# Altium integrated library Resistors-Capacitors.IntLib: 24 symbols
Pins are listed as number, name and electrical type; pins without a type are passive.

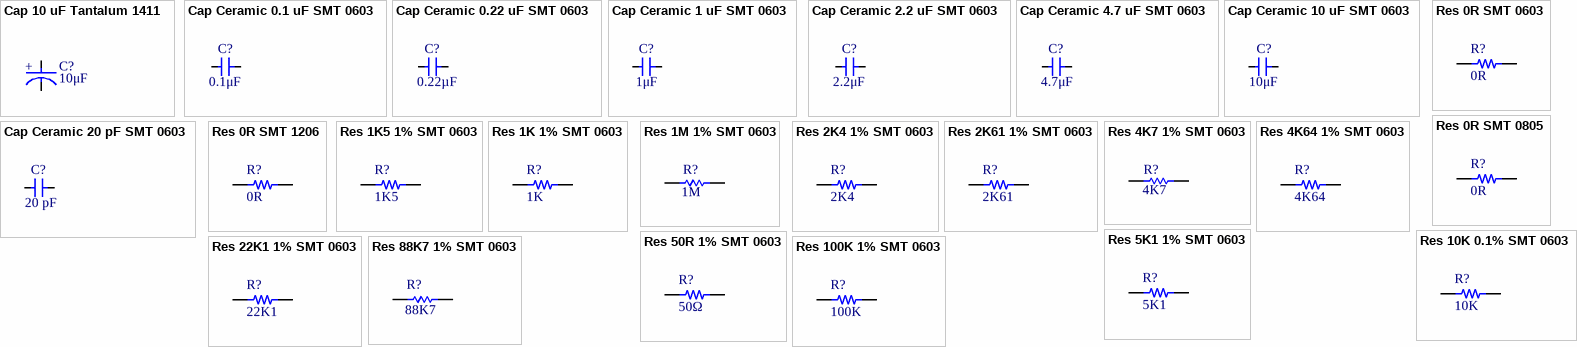
[diagram p0: symbols Cap 10 uF Tantalum 1411 to Res 100K 1% SMT 0603]

## Cap 10 uF Tantalum 1411
designator C?, comment value 10μF  (hidden comment: 293D106X9016B2TE3)
10 µF Molded Tantalum Capacitors 16 V 1411 (3528 Metric) 2Ohm; Voltage Rating: 16V; Case Code (Imperial): 1411; Supplier 1: Digi-Key; Supplier Part Number 1: 718-1124-1-ND; Supplier 2: Digi-Key; Supplier Part Number 2: 718-1124-6-ND; Supplier 3: Digi-Key; Supplier Part Number 3: 718-1124-2-ND
footprint Cap Vishay Tantalum 1411 (10 µF Molded Tantalum Capacitors 16 V 1411 (3528 Metric) 2Ohm)
pins: 1 C, 2 A
text: +

## Cap Ceramic 0.1 uF SMT 0603
designator C?, comment Capacitance: 0.1μF  (hidden comment: CC0603JRX7R9BB104)
0.1 µF ±5% 50V Ceramic Capacitor X7R 0603 (1608 Metric); manufacturer: Yageo; Part Number: CC0603JRX7R9BB104; Applications: General Purpose; componentlink1description: Datasheet; componentlink1url: https://www.yageo.com/upload/media/product/productsearch/datasheet/mlcc/UPY-GPHC_X7R_6.3V-to-50V_18.pdf; componentlink2description: DigiKey Link; componentlink2url: https://www.digikey.com/en/products/detail/yageo/CC0603JRX7R9BB104/5195188; Device Package: 0603 (1608 Metric); lastupdated: 2023-03-06 20:08:09; Lifecycle Status: Active; Minimum Order: 1; Mounting Type: Surface Mount, MLCC; Operating Temperature: -55°C ~ 125°C; Package / Case: 0603 (1608 Metric); packaging: TapeAndReel; partid: 12474; Part Status: Active; price: 0.01; series: CC; Size / Dimension: 0.063" L x 0.031" W (1.60mm x 0.80mm); Temperature Coefficient: X7R; Thickness (Max): 0.035" (0.90mm); Tolerance: ±5%; Voltage - Rated: 50V; Supplier 1: Digi-Key; Supplier Part Number 1: 311-1779-1-ND; Supplier 2: Digi-Key; Supplier Part Number 2: 311-1779-6-ND; Supplier 3: Digi-Key; Supplier Part Number 3: 311-1779-2-ND
footprint Cap Yaego 0603 (Capacitor Yaego 0603)
footprint Cap Yaego 0603 MFG
pins: 1, 2

## Cap Ceramic 0.22 uF SMT 0603
designator C?, comment Capacitance: 0.22µF  (hidden comment: GRM188R71E224KA88D)
0.22 µF ±10% 25V Ceramic Capacitor X7R 0603 (1608 Metric); manufacturer: Murata Electronics; Part Number: GRM188R71E224KA88D; Applications: General Purpose; componentlink1description: Datasheet; componentlink1url: https://www.murata.com/~/media/webrenewal/support/library/catalog/products/capacitor/mlcc/c02e.ashx?la=en-us; componentlink2description: DigiKey Link; componentlink2url: https://www.digikey.com/en/products/detail/murata-electronics/GRM188R71E224KA88D/702554; Device Package: 0603 (1608 Metric); lastupdated: 2023-03-05 20:08:17; Lifecycle Status: Active; Minimum Order: 1; Mounting Type: Surface Mount, MLCC; Operating Temperature: -55°C ~ 125°C; Package / Case: 0603 (1608 Metric); packaging: TapeAndReel; partid: 11196; Part Status: Active; price: 0.01; series: GRM; Size / Dimension: 0.063" L x 0.031" W (1.60mm x 0.80mm); Temperature Coefficient: X7R; Thickness (Max): 0.035" (0.90mm); Tolerance: ±10%; Voltage - Rated: 25V; Supplier 1: Digi-Key; Supplier Part Number 1: 490-3290-1-ND; Supplier 2: Digi-Key; Supplier Part Number 2: 490-3290-6-ND; Supplier 3: Digi-Key; Supplier Part Number 3: 490-3290-2-ND
footprint Cap Murata 0603 (Capacitor Murata Electronics 0603)
pins: 1, 2

## Cap Ceramic 1 uF SMT 0603
designator C?, comment value 1μF  (hidden comment: CC0603KPX7R7BB105)
1 µF ±10% 16V Ceramic Capacitor X7R 0603 (1608 Metric); Dielectric: XR7; Tolerance: 10%; Max Operating Temperature: 125°C; Case Code (Imperial): 0603; Voltage Rating (DC): 16V; Resistor Type: Ceramic; Height: 0.8mm; Length: 1.6mm; Construction: Flat; Termination: SMT/SMD; Min Operating Temperature: -55°C; Supplier 1: Digi-Key; Supplier Part Number 1: 13-CC0603KPX7R7BB105CT-ND; Supplier 2: Digi-Key; Supplier Part Number 2: 13-CC0603KPX7R7BB105DKR-ND; Supplier 3: Digi-Key; Supplier Part Number 3: 13-CC0603KPX7R7BB105TR-ND
footprint Cap Yaego 0603 (Capacitor Yaego 0603)
footprint Cap Yaego 0603 MFG (Capacitor Yaego MFG Type 0603)
pins: 1, 2

## Cap Ceramic 2.2 uF SMT 0603
designator C?, comment value 2.2μF  (hidden comment: CC0603KRX7R5BB225)
2.2 µF ±10% 6.3V Ceramic Capacitor X7R 0603 (1608 Metric); manufacturer: Yageo; Part Number: CC0603KRX7R5BB225; Applications: General Purpose; componentlink1description: Datasheet; componentlink1url: https://www.yageo.com/upload/media/product/productsearch/datasheet/mlcc/UPY-GPHC_X7R_6.3V-to-50V_18.pdf; componentlink2description: DigiKey Link; componentlink2url: https://www.digikey.com/en/products/detail/yageo/CC0603KRX7R5BB225/5195203; Device Package: 0603 (1608 Metric); lastupdated: 2023-03-06 20:08:32; Lifecycle Status: Active; Minimum Order: 1; Mounting Type: Surface Mount, MLCC; Operating Temperature: -55°C ~ 125°C; Package / Case: 0603 (1608 Metric); packaging: TapeAndReel; partid: 41539; Part Status: Active; price: 0.01; series: CC; Size / Dimension: 0.063" L x 0.031" W (1.60mm x 0.80mm); Temperature Coefficient: X7R; Thickness (Max): 0.035" (0.90mm); Tolerance: ±10%; Voltage - Rated: 6.3V; ComponentLink1Description: Datasheet; ComponentLink1URL: *; Supplier 1: Digi-Key; Supplier Part Number 1: 311-1795-1-ND; Supplier 2: Digi-Key; Supplier Part Number 2: 311-1795-6-ND; Supplier 3: Digi-Key; Supplier Part Number 3: 311-1795-2-ND
footprint Cap Yaego 0603 (Capacitor Yaego 0603)
footprint Cap Yaego 0603 MFG (Capacitor Yaego MFG Type 0603)
pins: 1, 2

## Cap Ceramic 4.7 uF SMT 0603
designator C?, comment Capacitance: 4.7μF  (hidden comment: CC0603KRX5R7BB475)
4.7 µF ±10% 16V Ceramic Capacitor X5R 0603 (1608 Metric); manufacturer: Yageo; Part Number: CC0603KRX5R7BB475; Applications: General Purpose; componentlink1description: Datasheet; componentlink1url: https://www.yageo.com/upload/media/product/productsearch/datasheet/mlcc/UPY-GPHC_X5R_4V-to-50V_25.pdf; componentlink2description: DigiKey Link; componentlink2url: https://www.digikey.com/en/products/detail/yageo/CC0603KRX5R7BB475/5195193; Device Package: 0603 (1608 Metric); lastupdated: 2023-03-06 20:07:35; Lifecycle Status: Active; Minimum Order: 1; Mounting Type: Surface Mount, MLCC; Operating Temperature: -55°C ~ 85°C; Package / Case: 0603 (1608 Metric); packaging: TapeAndReel; partid: 46011; Part Status: Active; price: 0.02; series: CC; Size / Dimension: 0.063" L x 0.031" W (1.60mm x 0.80mm); Temperature Coefficient: X5R; Thickness (Max): 0.037" (0.95mm); Tolerance: ±10%; Voltage - Rated: 16V; Supplier 1: Digi-Key; Supplier Part Number 1: 311-1785-1-ND; Supplier 2: Digi-Key; Supplier Part Number 2: 311-1785-6-ND; Supplier 3: Digi-Key; Supplier Part Number 3: 311-1785-2-ND
footprint Cap Yaego 0603 (Capacitor Yaego 0603)
footprint Cap Yaego 0603 MFG (Capacitor Yaego MFG Type 0603)
pins: 1, 2

## Cap Ceramic 10 uF SMT 0603
designator C?, comment Capacitance: 10μF  (hidden comment: GRM188R60J106KE47J)
10 µF ±10% 6.3V Ceramic Capacitor X5R 0603 (1608 Metric); manufacturer: Murata Electronics; Part Number: GRM188R60J106KE47J; Applications: General Purpose; componentlink2description: DigiKey Link; componentlink2url: https://www.digikey.com/en/products/detail/murata-electronics/GRM188R60J106KE47J/10691412; Device Package: 0603 (1608 Metric); lastupdated: 2023-03-08 20:07:22; Lifecycle Status: Active; Minimum Order: 1; Mounting Type: Surface Mount, MLCC; Operating Temperature: -55°C ~ 85°C; Package / Case: 0603 (1608 Metric); packaging: TapeAndReel; partid: 47219; Part Status: Active; price: 0.01; series: GRM; Size / Dimension: 0.063" L x 0.032" W (1.60mm x 0.80mm); Temperature Coefficient: X5R; Thickness (Max): 0.035" (0.90mm); Tolerance: ±10%; Voltage - Rated: 6.3V; Supplier 1: Digi-Key; Supplier Part Number 1: 490-GRM188R60J106KE47JCT-ND; Supplier 2: Digi-Key; Supplier Part Number 2: 490-GRM188R60J106KE47JDKR-ND; Supplier 3: Digi-Key; Supplier Part Number 3: 490-GRM188R60J106KE47JTR-ND
footprint Cap Murata 0603 (Capacitor Murata Electronics 0603)
pins: 1, 2

## Cap Ceramic 20 pF SMT 0603
designator C?, comment Capacitance: 20 pF  (hidden comment: CC0603JRNPO9BN200)
20 pF ±5% 50V Ceramic Capacitor C0G, NP0 0603 (1608 Metric); manufacturer: Yageo; Part Number: CC0603JRNPO9BN200; Applications: General Purpose; componentlink1description: Datasheet; componentlink1url: https://www.yageo.com/upload/media/product/productsearch/datasheet/mlcc/UPY-GP_NP0_16V-to-50V_17.pdf; componentlink2description: DigiKey Link; componentlink2url: https://www.digikey.com/en/products/detail/yageo/CC0603JRNPO9BN200/2833589; Device Package: 0603 (1608 Metric); lastupdated: 2023-03-06 20:07:50; Lifecycle Status: Active; Minimum Order: 1; Mounting Type: Surface Mount, MLCC; Operating Temperature: -55°C ~ 125°C; Package / Case: 0603 (1608 Metric); packaging: TapeAndReel; partid: 16728; Part Status: Active; price: 0.01; series: CC; Size / Dimension: 0.063" L x 0.031" W (1.60mm x 0.80mm); Temperature Coefficient: C0G, NP0; Thickness (Max): 0.035" (0.90mm); Tolerance: ±5%; Voltage - Rated: 50V; Supplier 1: Digi-Key; Supplier Part Number 1: 311-1424-1-ND; Supplier 2: Digi-Key; Supplier Part Number 2: 311-1424-6-ND; Supplier 3: Digi-Key; Supplier Part Number 3: 311-1424-2-ND
footprint Cap Yaego 0603 (Capacitor Yaego 0603)
footprint Cap Yaego 0603 MFG (Capacitor Yaego MFG Type 0603)
pins: 1, 2

## Res 0R SMT 0603
designator R?, comment value 0R  (hidden comment: RMCF0603ZT0R00)
0 Ohms Jumper Chip Resistor 0603 (1608 Metric) Automotive AEC-Q200 Thick Film; Part Number: RC0603FR-070RL; Manufacturer: Yageo; Power (Watts): 0.1W, 1/10W; ComponentLink1Description: Datasheet; ComponentLink1URL: https://www.yageo.com/upload/media/product/productsearch/datasheet/rchip/PYu-RC_Group_51_RoHS_L_10.pdf; ComponentLink2Description: DigiKey Link; ComponentLink2URL: https://www.digikey.com/en/products/detail/yageo/RC0603FR-070RL/1304008; Composition: Thick Film; Device Package: 0603 (1608 Metric); Features: Moisture Resistant; Height - Seated (Max): 0.022" (0.55mm); LastUpdated: 2023-03-11 8:29:20 PM; Lifecycle Status: Active; Minimum Order: 1; Number of Terminations: 2; Operating Temperature: -55°C ~ 155°C; Package / Case: 0603 (1608 Metric); Packaging: CutTape; PartId: 22614; Part Status: Active; Price: 0.01; Resistance: 0R; Series: RC_L; Size / Dimension: 0.063" L x 0.031" W (1.60mm x 0.80mm); Supplier Device Package: 0603; Tolerance: Jumper; Supplier 1: Digi-Key; Supplier Part Number 1: RMCF0603ZT0R00CT-ND; Supplier 2: Digi-Key; Supplier Part Number 2: RMCF0603ZT0R00DKR-ND; Supplier 3: Digi-Key; Supplier Part Number 3: RMCF0603ZT0R00TR-ND
footprint Res SP Elect 0603 RMFC (Resistor 0603 (1608 Metric) Automotive AEC-Q200 Thick Film)
pins: 1, 2

## Res 0R SMT 0805
designator R?, comment value 0R  (hidden comment: RMCF0805ZT0R00)
0 Ohms Jumper Chip Resistor 0805 (2012 Metric) Automotive AEC-Q200 Thick Film; Manufacturer: Stackpole Electronics Inc; Power (Watts): 0.125W, 1/8W; Part Number: RMCF0805ZT0R00; ComponentLink1Description: Datasheet; ComponentLink1URL: https://www.seielect.com/catalog/sei-packaging.pdf; ComponentLink2Description: DigiKey Link; ComponentLink2URL: https://www.digikey.com/en/products/detail/stackpole-electronics-inc/RMCF0805ZT0R00/1756901; Composition: Thick Film; Device Package: 0805 (2012 Metric); Features: Automotive AEC-Q200; Height - Seated (Max): 0.026" (0.65mm); LastUpdated: 2023-03-13 19:41:59; Lifecycle Status: Active; Minimum Order: 1; Number of Terminations: 2; Operating Temperature: -55°C ~ 155°C; Package / Case: 0805 (2012 Metric); Packaging: CutTape; PartId: 46079; Part Status: Active; Price: 0.01; Ratings: AEC-Q200; Resistance: 0R; Series: RMCF; Size / Dimension: 0.079" L x 0.049" W (2.00mm x 1.25mm); Supplier Device Package: 0805; Tolerance: Jumper; Supplier 1: Digi-Key; Supplier Part Number 1: RMCF0805ZT0R00CT-ND; Supplier 2: Digi-Key; Supplier Part Number 2: RMCF0805ZT0R00DKR-ND; Supplier 3: Digi-Key; Supplier Part Number 3: RMCF0805ZT0R00TR-ND
footprint Res SP 0805 (Resistor Stackpole Electronics 0805 Jumper Type)
pins: 1, 2

## Res 0R SMT 1206
designator R?, comment value 0R  (hidden comment: RMCF1206ZT0R00)
0 Ohms Jumper Chip Resistor 1206 (3216 Metric) Automotive AEC-Q200 Thick Film; Part Number: RMCF0805ZT0R00; Manufacturer: Stackpole Electronics Inc; Power (Watts): 0.125W, 1/8W; ComponentLink1Description: Datasheet; ComponentLink1URL: https://www.seielect.com/Catalog/SEI-RMCF_RMCP.pdf; ComponentLink2Description: DigiKey Link; ComponentLink2URL: https://www.digikey.ca/short/rcw47b0d; Composition: Thick Film; Device Package: 0805 (2012 Metric); Features: Automotive AEC-Q200; Height - Seated (Max): 0.026" (0.65mm); LastUpdated: 2023-03-13 19:41:59; Lifecycle Status: Active; Minimum Order: 1; Number of Terminations: 2; Operating Temperature: -55°C ~ 155°C; Package / Case: 0805 (2012 Metric); Packaging: CutTape; PartId: 46079; Part Status: Active; Price: 0.01; Ratings: AEC-Q200; Resistance: 0R; Series: RMCF; Size / Dimension: 0.079" L x 0.049" W (2.00mm x 1.25mm); Supplier Device Package: 0805; Tolerance: Jumper; Supplier 1: Digi-Key; Supplier Part Number 1: RMCF1206ZT0R00CT-ND; Supplier 2: Digi-Key; Supplier Part Number 2: RMCF1206ZT0R00DKR-ND; Supplier 3: Digi-Key; Supplier Part Number 3: RMCF1206ZT0R00TR-ND
footprint Res SP 1206 Jumper Type (Resistor Stackpole Electronics 1206)
pins: 1, 2

## Res 1K5 1% SMT 0603
designator R?  value 1K5  (hidden comment: Res 1K5 1% SMT 0603)
1.5 kOhms ±1% 0.1W, 1/10W Chip Resistor 0603 (1608 Metric) Moisture Resistant Thick Film; Part Number: RC0603FR-071K5L; Manufacturer: Yageo; Temperature Coefficient: ±100ppm/°C; ComponentLink1Description: Datasheet; ComponentLink1URL: https://www.yageo.com/upload/media/product/productsearch/datasheet/rchip/PYu-RC_Group_51_RoHS_L_10.pdf; ComponentLink2Description: DigiKey Link; ComponentLink2URL: https://www.digikey.com/en/products/detail/yageo/RC0603FR-071K5L/726864; Composition: Thick Film; Device Package: 0603 (1608 Metric); Features: Moisture Resistant; Height - Seated (Max): 0.022" (0.55mm); LastUpdated: 2023-03-11 8:29:10 PM; Lifecycle Status: Active; Minimum Order: 1; Number of Terminations: 2; Operating Temperature: -55°C ~ 155°C; Package / Case: 0603 (1608 Metric); Packaging: CutTape; PartId: 23957; Part Status: Active; Power (Watts): 0.1W, 1/10W; Price: 0.01; Resistance: 1K5; Series: RC_L; Size / Dimension: 0.063" L x 0.031" W (1.60mm x 0.80mm); Supplier Device Package: 0603; Tolerance: ±1%; Supplier 1: Digi-Key; Supplier Part Number 1: 311-1.50KHRCT-ND; Supplier 2: Digi-Key; Supplier Part Number 2: 311-1.50KHRDKR-ND; Supplier 3: Digi-Key; Supplier Part Number 3: 311-1.50KHRTR-ND
footprint Resistor Yaego SMT 0603
pins: 1, 2

## Res 1K 1% SMT 0603
designator R?, comment value 1K  (hidden comment: RC0603FR-101KL)
1 kOhms ±1% 0.1W, 1/10W Chip Resistor 0603 (1608 Metric) Moisture Resistant Thick Film; Manufacturer: Yageo; Temperature Coefficient: ±100ppm/°C; Part Number: RC0603FR-101KL; ComponentLink1Description: Datasheet; ComponentLink1URL: https://www.yageo.com/upload/media/product/productsearch/datasheet/rchip/PYu-RC_Group_51_RoHS_L_11.pdf; ComponentLink2Description: DigiKey Link; ComponentLink2URL: https://www.digikey.com/en/products/detail/yageo/RC0603FR-101KL/12756391; Composition: Thick Film; Device Package: 0603 (1608 Metric); Features: Moisture Resistant; Height - Seated (Max): 0.022" (0.55mm); LastUpdated: 2023-03-11 8:28:14 PM; Lifecycle Status: Active; Minimum Order: 1; Number of Terminations: 2; Operating Temperature: -55°C ~ 155°C; Package / Case: 0603 (1608 Metric); Packaging: CutTape; PartId: 68024; Part Status: Active; Power (Watts): 0.1W, 1/10W; Price: 0.01; Resistance: 1K; Series: RC_L; Size / Dimension: 0.063" L x 0.031" W (1.60mm x 0.80mm); Supplier Device Package: 0603; Tolerance: ±1%; Supplier 1: Digi-Key; Supplier Part Number 1: 13-RC0603FR-101KLCT-ND; Supplier 2: Digi-Key; Supplier Part Number 2: 13-RC0603FR-101KLDKR-ND; Supplier 3: Digi-Key; Supplier Part Number 3: 13-RC0603FR-101KLTR-ND
footprint Resistor Yaego SMT 0603
pins: 1, 2

## Res 1M 1% SMT 0603
designator R?, comment Resistance: 1M  (hidden comment: AC0603FR-071ML)
1 MΩ ±1% 0.1W, 1/10W Chip Resistor 0603 (1608 Metric) Automotive AEC-Q200, Moisture Resistant Thick Film; Manufacturer: Yageo; Temperature Coefficient: ±100ppm/°C; Part Number: AC0603FR-071ML; ComponentLink1Description: Datasheet; ComponentLink1URL: https://www.yageo.com/upload/media/product/productsearch/datasheet/rchip/PYu-AC_51_RoHS_L_7.pdf; ComponentLink2Description: DigiKey Link; ComponentLink2URL: https://www.digikey.com/en/products/detail/yageo/AC0603FR-071ML/2827820; Composition: Thick Film; Device Package: 0603 (1608 Metric); Features: Automotive AEC-Q200, Moisture Resistant; Height - Seated (Max): 0.022" (0.55mm); LastUpdated: 2023-03-06 20:28:19; Lifecycle Status: Active; Minimum Order: 1; Number of Terminations: 2; Operating Temperature: -55°C ~ 155°C; Package / Case: 0603 (1608 Metric); Packaging: CutTape; PartId: 17362; Part Status: Active; Power (Watts): 0.1W, 1/10W; Price: 0.01; Ratings: AEC-Q200; Series: AC; Size / Dimension: 0.063" L x 0.031" W (1.60mm x 0.80mm); Supplier Device Package: 0603; Tolerance: ±1%; Supplier 1: Digi-Key; Supplier Part Number 1: 311-1MLDCT-ND; Supplier 2: Digi-Key; Supplier Part Number 2: 311-1MLDDKR-ND; Supplier 3: Digi-Key; Supplier Part Number 3: 311-1MLDTR-ND
footprint Resistor Yaego SMT 0603
pins: 1, 2

## Res 2K4 1% SMT 0603
designator R?, comment value 2K4  (hidden comment: AC0603FR-072K4L)
2.4 kOhms ±1% 0.1W, 1/10W Chip Resistor 0603 (1608 Metric) Automotive AEC-Q200, Moisture Resistant Thick Film; Manufacturer: Yageo; Temperature Coefficient: ±100ppm/°C; Part Number: AC0603FR-072K4L; ComponentLink1Description: Datasheet; ComponentLink1URL: https://www.yageo.com/upload/media/product/productsearch/datasheet/rchip/PYu-AC_51_RoHS_L_7.pdf; ComponentLink2Description: DigiKey Link; ComponentLink2URL: https://www.digikey.com/en/products/detail/yageo/AC0603FR-072K4L/5895989; Composition: Thick Film; Device Package: 0603 (1608 Metric); Features: Automotive AEC-Q200, Moisture Resistant; Height - Seated (Max): 0.022" (0.55mm); LastUpdated: 2023-03-07 20:28:01; Lifecycle Status: Active; Minimum Order: 1; Number of Terminations: 2; Operating Temperature: -55°C ~ 155°C; Package / Case: 0603 (1608 Metric); Packaging: CutTape; PartId: 22004; Part Status: Active; Power (Watts): 0.1W, 1/10W; Price: 0.01; Ratings: AEC-Q200; Resistance: 2K4; Series: AC; Size / Dimension: 0.063" L x 0.031" W (1.60mm x 0.80mm); Supplier Device Package: 0603; Tolerance: ±1%; Supplier 1: Digi-Key; Supplier Part Number 1: YAG5724CT-ND; Supplier 2: Digi-Key; Supplier Part Number 2: YAG5724DKR-ND; Supplier 3: Digi-Key; Supplier Part Number 3: YAG5724TR-ND
footprint Resistor Yaego SMT 0603
pins: 1, 2

## Res 2K61 1% SMT 0603
designator R?, comment value 2K61  (hidden comment: RMCF0603FT2K61)
2.61 kOhms ±1% 0.1W, 1/10W Chip Resistor 0603 (1608 Metric) Automotive AEC-Q200 Thick Film; Manufacturer: Stackpole Electronics Inc; Temperature Coefficient: ±100ppm/°C; Part Number: RMCF0603FT2K61; ComponentLink1Description: Datasheet; ComponentLink1URL: https://www.seielect.com/catalog/sei-rmcf_rmcp.pdf; ComponentLink2Description: DigiKey Link; ComponentLink2URL: https://www.digikey.com/en/products/detail/stackpole-electronics-inc/RMCF0603FT2K61/1761065; Composition: Thick Film; Device Package: 0603 (1608 Metric); Features: Automotive AEC-Q200; Height - Seated (Max): 0.022" (0.55mm); LastUpdated: 2023-03-11 8:29:47 PM; Lifecycle Status: Active; Minimum Order: 1; Number of Terminations: 2; Operating Temperature: -55°C ~ 155°C; Package / Case: 0603 (1608 Metric); Packaging: CutTape; PartId: 15651; Part Status: Active; Power (Watts): 0.1W, 1/10W; Price: 0.01; Ratings: AEC-Q200; Resistance: 2K61; Series: RMCF; Size / Dimension: 0.061" L x 0.031" W (1.55mm x 0.80mm); Supplier Device Package: 0603; Tolerance: ±1%; Supplier 1: Digi-Key; Supplier Part Number 1: RMCF0603FT2K61CT-ND; Supplier 2: Digi-Key; Supplier Part Number 2: RMCF0603FT2K61DKR-ND; Supplier 3: Digi-Key; Supplier Part Number 3: RMCF0603FT2K61TR-ND
footprint Res SP Elect 0603 RMFC (Resistor 0603 (1608 Metric) Automotive AEC-Q200 Thick Film)
pins: 1, 2

## Res 4K7 1% SMT 0603
designator R?, comment Resistance: 4K7  (hidden comment: AC0603FR-074K7L)
4.7 kΩ ±1% 0.1W, 1/10W Chip Resistor 0603 (1608 Metric) Automotive AEC-Q200, Moisture Resistant Thick Film; Temperature Coefficient: 100ppm/°C; Max Power Dissipation: 100mW; Voltage Rating: 50V; Min Operating Temperature: -55°C; Width: 0.031inch; Features: Moisture Resistant; Case/Package: 0603; Number of Terminations: 2; Height: 0.022inch; Case Code (Imperial): 0603; Construction: Rectangular; Length: 0.063inch; Termination: SMD/SMT; Tolerance: 1%; Military Standard: Not; Case Code (Metric): 1608; Lead Free: Lead Free; Depth: 0.8mm; Max Operating Temperature: 155°C; Size Code: 0603; RoHS Compliant: Yes; Series: AC; Resistor Type: Thick Film; Ratings: AEC-Q200; Packaging: Tape and Reel; Power Rating: 100mW; Supplier 1: Digi-Key; Supplier Part Number 1: YAG3613CT-ND; Supplier 2: Digi-Key; Supplier Part Number 2: YAG3613DKR-ND; Supplier 3: Digi-Key; Supplier Part Number 3: YAG3613TR-ND
footprint Resistor Yaego SMT 0603
pins: 1, 2

## Res 4K64 1% SMT 0603
designator R?, comment value 4K64  (hidden comment: RC0603FR-074K64L)
4.64 kOhms ±1% 0.1W, 1/10W Chip Resistor 0603 (1608 Metric) Moisture Resistant Thick Film; Manufacturer: Yageo; Temperature Coefficient: ±100ppm/°C; Part Number: RC0603FR-074K64L; ComponentLink1Description: Datasheet; ComponentLink1URL: https://www.yageo.com/upload/media/product/productsearch/datasheet/rchip/PYu-RC_Group_51_RoHS_L_10.pdf; ComponentLink2Description: DigiKey Link; ComponentLink2URL: https://www.digikey.com/en/products/detail/yageo/RC0603FR-074K64L/727211; Composition: Thick Film; Device Package: 0603 (1608 Metric); Features: Moisture Resistant; Height - Seated (Max): 0.022" (0.55mm); LastUpdated: 2023-03-10 20:29:36; Lifecycle Status: Active; Minimum Order: 1; Number of Terminations: 2; Operating Temperature: -55°C ~ 155°C; Package / Case: 0603 (1608 Metric); Packaging: CutTape; PartId: 12437; Part Status: Active; Power (Watts): 0.1W, 1/10W; Price: 0.01; Resistance: 4K64; Series: RC_L; Size / Dimension: 0.063" L x 0.031" W (1.60mm x 0.80mm); Supplier 1: DigiKey; Supplier Part Number 1: 311-4.64KHRCT-ND; Supplier Device Package: 0603; Tolerance: ±1%
footprint Resistor Yaego SMT 0603
pins: 1, 2

## Res 5K1 1% SMT 0603
designator R?, comment value 5K1  (hidden comment: AC0603FR-075K1L)
5.1 kOhms ±1% 0.1W, 1/10W Chip Resistor 0603 (1608 Metric) Automotive AEC-Q200, Moisture Resistant Thick Film; Manufacturer: Yageo; Temperature Coefficient: ±100ppm/°C; Part Number: AC0603FR-075K1L; ComponentLink1Description: Datasheet; ComponentLink1URL: https://www.yageo.com/upload/media/product/productsearch/datasheet/rchip/PYu-AC_51_RoHS_L_7.pdf; ComponentLink2Description: DigiKey Link; ComponentLink2URL: https://www.digikey.com/en/products/detail/yageo/AC0603FR-075K1L/5896209; Composition: Thick Film; Device Package: 0603 (1608 Metric); Features: Automotive AEC-Q200, Moisture Resistant; Height - Seated (Max): 0.022" (0.55mm); LastUpdated: 2023-03-07 20:28:19; Lifecycle Status: Active; Minimum Order: 1; Number of Terminations: 2; Operating Temperature: -55°C ~ 155°C; Package / Case: 0603 (1608 Metric); Packaging: CutTape; PartId: 17442; Part Status: Active; Power (Watts): 0.1W, 1/10W; Price: 0.01; Ratings: AEC-Q200; Resistance: 5K1; Series: AC; Size / Dimension: 0.063" L x 0.031" W (1.60mm x 0.80mm); Supplier Device Package: 0603; Tolerance: ±1%; Supplier 1: Digi-Key; Supplier Part Number 1: YAG3621CT-ND; Supplier 2: Digi-Key; Supplier Part Number 2: YAG3621DKR-ND; Supplier 3: Digi-Key; Supplier Part Number 3: YAG3621TR-ND
footprint Resistor Yaego SMT 0603
pins: 1, 2

## Res 10K 0.1% SMT 0603
designator R?, comment value 10K  (hidden comment: RT0603BRD0710KL)
10 kΩ  ±0.1% 0.1W, 1/10W Chip Resistor 0603 (1608 Metric) Thin Film; Manufacturer: Yageo; Temperature Coefficient: ±25ppm/°C; Part Number: RT0603BRD0710KL; ComponentLink1Description: Datasheet; ComponentLink1URL: https://www.yageo.com/upload/media/product/productsearch/datasheet/rchip/PYu-RT_1-to-0.01_RoHS_L_11.pdf; ComponentLink2Description: DigiKey Link; ComponentLink2URL: https://www.digikey.com/en/products/detail/yageo/RT0603BRD0710KL/1072198; Composition: Thin Film; Device Package: 0603 (1608 Metric); Height - Seated (Max): 0.022" (0.55mm); LastUpdated: 2023-03-06 20:27:57; Lifecycle Status: Active; Minimum Order: 1; Number of Terminations: 2; Operating Temperature: -55°C ~ 155°C; Package / Case: 0603 (1608 Metric); Packaging: TapeAndReel; PartId: 22611; Part Status: Active; Power (Watts): 0.1W, 1/10W; Price: 0.03; Resistance: 10K; Series: RT; Size / Dimension: 0.063" L x 0.031" W (1.60mm x 0.80mm); Supplier Device Package: 0603; Tolerance: ±0.1%; Supplier 1: Digi-Key; Supplier Part Number 1: YAG1236CT-ND; Supplier 2: Digi-Key; Supplier Part Number 2: YAG1236DKR-ND; Supplier 3: Digi-Key; Supplier Part Number 3: YAG1236TR-ND
footprint Res Yaego RT 0603 (Resistor Yaego RT Serie 0603)
pins: 1, 2

## Res 22K1 1% SMT 0603
designator R?, comment value 22K1  (hidden comment: RC0603FR-0722K1L)
RES 22.1K OHM 1% 1/10W 0603; Manufacturer: Yageo; Power (Watts): 0.1W, 1/10W; Temperature Coefficient: ±100ppm/°C; Part Number: RC0603FR-0722K1L; ComponentLink1Description: Datasheet; ComponentLink1URL: https://www.yageo.com/upload/media/product/productsearch/datasheet/rchip/PYu-RC_Group_51_RoHS_L_10.pdf; ComponentLink2Description: DigiKey Link; ComponentLink2URL: https://www.digikey.com/en/products/detail/yageo/RC0603FR-0722K1L/727058; Composition: Thick Film; Device Package: 0603 (1608 Metric); Features: Moisture Resistant; Height - Seated (Max): 0.022" (0.55mm); LastUpdated: 2023-03-08 20:29:23; Lifecycle Status: Active; Minimum Order: 1; Number of Terminations: 2; Operating Temperature: -55°C ~ 155°C; Package / Case: 0603 (1608 Metric); Packaging: CutTape; PartId: 19017; Part Status: Active; Price: 0.01; Resistance: 22K1; Series: RC_L; Size / Dimension: 0.063" L x 0.031" W (1.60mm x 0.80mm); Supplier Device Package: 0603; Tolerance: ±1%; Supplier 1: Digi-Key; Supplier Part Number 1: 311-22.1KHRCT-ND; Supplier 2: Digi-Key; Supplier Part Number 2: 311-22.1KHRDKR-ND; Supplier 3: Digi-Key; Supplier Part Number 3: 311-22.1KHRTR-ND
footprint Resistor Yaego SMT 0603
pins: 1, 2

## Res 50R 1% SMT 0603
designator R?, comment value 50Ω  (hidden comment: CRCW060350R0FKEA)
50Ω ±1% 0.1W, 1/10W Chip Resistor 0603 (1608 Metric) Automotive AEC-Q200 Thick Film; Manufacturer: Vishay Dale; Temperature Coefficient: ±100ppm/°C; Part Number: CRCW060350R0FKEA; ComponentLink1Description: Datasheet; ComponentLink1URL: http://www.vishay.com/docs/20035/dcrcwe3.pdf; ComponentLink2Description: DigiKey Link; ComponentLink2URL: http://digikey.com/product-detail/en/vishay-dale/CRCW060350R0FKEA/541-3318-1-ND/6684924; Composition: Thick Film; Device Package: 0603 (1608 Metric); Features: Automotive AEC-Q200; Height - Seated (Max): 0.020" (0.50mm); LastUpdated: 2023-03-07 20:27:49; Lifecycle Status: Active; Minimum Order: 1; Number of Terminations: 2; Operating Temperature: -55°C ~ 155°C; Package / Case: 0603 (1608 Metric); Packaging: CutTape; PartId: 23780; Part Status: Active; Power (Watts): 0.1W, 1/10W; Price: 0.10; Ratings: AEC-Q200; Resistance: 50Ω; Series: CRCW; Size / Dimension: 0.061" L x 0.033" W (1.55mm x 0.85mm); Supplier Device Package: 0603; Tolerance: ±1%; Supplier 1: Mouser; Supplier Part Number 1: 71-CRCW0603-50-E3
footprint Res Vishay 0603 (Resistor Vishay 0603)
pins: 1, 2

## Res 88K7 1% SMT 0603
designator R?, comment Resistance: 88K7  (hidden comment: CRCW060388K7FKEB)
88.7 kΩ ±1% 0.1W, 1/10W Chip Resistor 0603 (1608 Metric) Automotive AEC-Q200 Thick Film; Manufacturer: Vishay Dale; Temperature Coefficient: ±100ppm/°C; Part Number: CRCW060388K7FKEB; ComponentLink1Description: Datasheet; ComponentLink1URL: http://www.vishay.com/docs/20035/dcrcwe3.pdf; ComponentLink2Description: DigiKey Link; ComponentLink2URL: https://www.digikey.com/en/products/detail/vishay-dale/CRCW060388K7FKEB/5073407; Composition: Thick Film; Device Package: 0603 (1608 Metric); Features: Automotive AEC-Q200; Height - Seated (Max): 0.020" (0.50mm); LastUpdated: 2023-03-06 20:27:22; Lifecycle Status: Active; Minimum Order: 1; Number of Terminations: 2; Operating Temperature: -55°C ~ 155°C; Package / Case: 0603 (1608 Metric); Packaging: CutTape; PartId: 56612; Part Status: Active; Power (Watts): 0.1W, 1/10W; Price: 0.01; Ratings: AEC-Q200; Series: CRCW; Size / Dimension: 0.063" L x 0.033" W (1.60mm x 0.85mm); Supplier Device Package: 0603; Tolerance: ±1%; Supplier 1: Digi-Key; Supplier Part Number 1: 541-CRCW060388K7FKEBCT-ND; Supplier 2: Digi-Key; Supplier Part Number 2: 541-CRCW060388K7FKEBDKR-ND
footprint Res Vishay 0603 (Resistor Vishay 0603)
pins: 1, 2

## Res 100K 1% SMT 0603
designator R?, comment value 100K  (hidden comment: AC0603FR-07100KL)
100 kΩ ±1% 0.1W, 1/10W Chip Resistor 0603 (1608 Metric) Automotive AEC-Q200, Moisture Resistant Thick Film; Manufacturer: Yageo; Temperature Coefficient: ±100ppm/°C; Part Number: AC0603FR-07100KL; ComponentLink1Description: Datasheet; ComponentLink1URL: https://www.yageo.com/upload/media/product/productsearch/datasheet/rchip/PYu-AC_51_RoHS_L_7.pdf; ComponentLink2Description: DigiKey Link; ComponentLink2URL: https://www.digikey.com/en/products/detail/yageo/AC0603FR-07100KL/2827813; Composition: Thick Film; Device Package: 0603 (1608 Metric); Features: Automotive AEC-Q200, Moisture Resistant; Height - Seated (Max): 0.022" (0.55mm); LastUpdated: 2023-03-06 20:28:19; Lifecycle Status: Active; Minimum Order: 1; Number of Terminations: 2; Operating Temperature: -55°C ~ 155°C; Package / Case: 0603 (1608 Metric); Packaging: CutTape; PartId: 17350; Part Status: Active; Power (Watts): 0.1W, 1/10W; Price: 0.01; Ratings: AEC-Q200; Resistance: 100K; Series: AC; Size / Dimension: 0.063" L x 0.031" W (1.60mm x 0.80mm); Supplier Device Package: 0603; Tolerance: ±1%; Supplier 1: Digi-Key; Supplier Part Number 1: 311-100KLDCT-ND; Supplier 2: Digi-Key; Supplier Part Number 2: 311-100KLDDKR-ND; Supplier 3: Digi-Key; Supplier Part Number 3: 311-100KLDTR-ND
footprint Resistor Yaego SMT 0603
pins: 1, 2